# EAGLE library part CARD-SD-ADAPTER (library Ipfcz)
Full Size SD Card Adapter Module with onboard 3.3V regulator Guide describing how to use SD card with Arduino is available here: https://www.arduino.cc/en/Reference/SDCardNotes Click here to find device on ebay.com <http://www.ebay.com/sch/sd+card+socket+module>
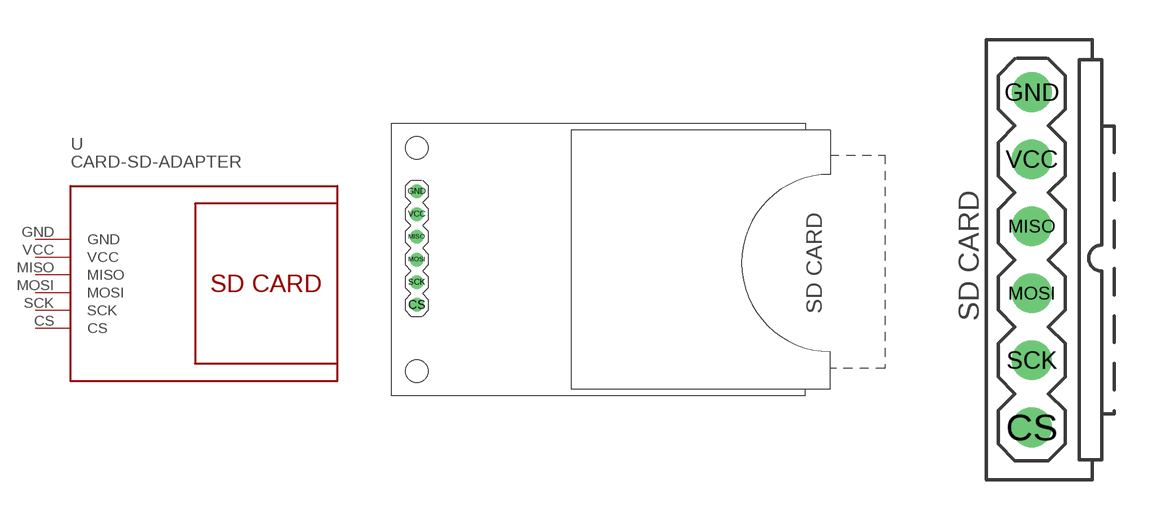
[diagram p5: symbol with the pads of CARD-SD-ADAPTER; footprints CARD-SD-ADAPTER, CARD-SD-ADAPTERS]

Designator prefix -

## CARD-SD-ADAPTER  [CARD-SD-ADAPTER]
CS  CS
GND  GND  pwr
MISO  MISO
MOSI  MOSI
SCK  SCK
VCC  VCC  pwr

## CARD-SD-ADAPTERSD-CARD  [CARD-SD-ADAPTERS]
Pads as for CARD-SD-ADAPTER

## Footprint CARD-SD-ADAPTER (pad centres in mm)
Full Size SD Card Adapter Module with onboard 3.3V regulator
drill 1: CS -20.32,-5.08; GND -20.32,7.62; MISO -20.32,2.54; MOSI -20.32,0; SCK -20.32,-2.54; VCC -20.32,5.08
hole 2.5 at -20.32,12.5
hole 2.5 at -20.32,-12.5

## Footprint CARD-SD-ADAPTERS (pad centres in mm)
Full Size SD Card Adapter Module with onboard 3.3V regulator
drill 1: CS -1.27,-5.08; GND -1.27,7.62; MISO -1.27,2.54; MOSI -1.27,0; SCK -1.27,-2.54; VCC -1.27,5.08